# Altium footprint library RJ45_TJ16S-8P8C.PcbLib: 1 footprints
Each footprint in its own frame and in the unit in brackets; x right, y up, seen from the top. Pads: shape width x height; smd on the part's side, far side on the other; paste and mask are expansions set on the pad; w line width, h text height; cw(c..) or ccw(c..) is an arc to the next point about the centre after c.
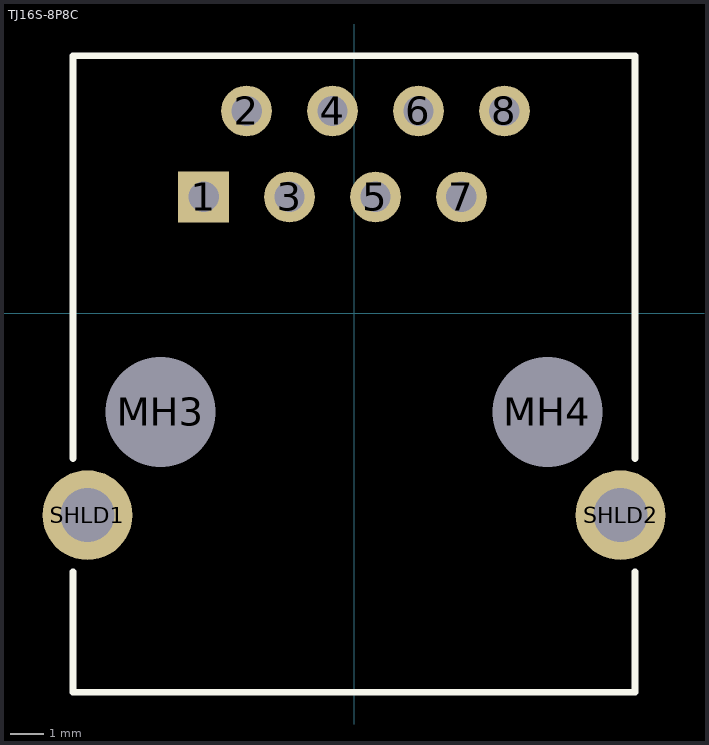
[diagram p0: the footprint, top view; thin cyan lines are the x and y axes]

## TJ16S-8P8C [mm]
pads (12):
  rect 1.5x1.5 hole 0.9: 1(-4.445,3.43)
  round 1.5 hole 0.9: 2(-3.175,5.97) 3(-1.905,3.43) 4(-0.635,5.97) 5(0.635,3.43) 6(1.905,5.97) 7(3.175,3.43) 8(4.445,5.97)
  round 2.95 hole 3.25 unplated: MH3(-5.715,-2.92) MH4(5.715,-2.92)
  round 2.65 hole 1.6: SHLD1(-7.875,-5.97) SHLD2(7.875,-5.97)
Top Overlay:
  lines w0.2: -8.3,-7.642 -8.3,-11.2 8.3,-11.2 8.3,-7.642 ; -8.3,-4.298 -8.3,7.6 8.3,7.6 8.3,-4.298
3D body: height 3, standoff -12.68, extent -7.726,-10.886 7.874,7.474